# EAGLE library part MICRO-SD-SOCKET (library SteveMarple)
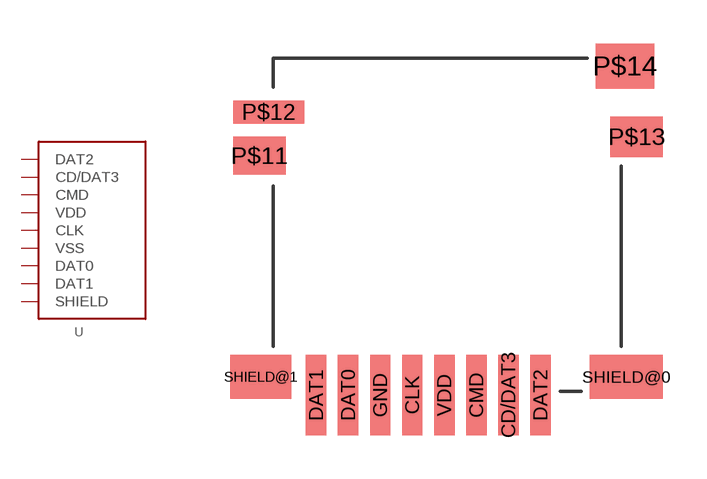
[diagram p9: symbol with the pads of MICRO-SD-SOCKET-HIROSE-DM3D; footprint MICRO-SD-SOCKET-HIROSE-DM3D]

Designator prefix -

## MICRO-SD-SOCKETHIROSE-DM3D  [MICRO-SD-SOCKET-HIROSE-DM3D]
CD/DAT3  CD/DAT3
CLK  CLK
CMD  CMD
DAT0  DAT0
DAT1  DAT1
DAT2  DAT2
GND  VSS  pwr
SHIELD@0  SHIELD
VDD  VDD  pwr

## Footprint MICRO-SD-SOCKET-HIROSE-DM3D (pad centres in mm)
smd 0.7 x 2.75: CD/DAT3 6.6,-1.375; CLK 3.3,-1.375; CMD 5.5,-1.375; DAT0 1.1,-1.375; DAT1 0,-1.375; DAT2 7.7,-1.375; GND 2.2,-1.375; VDD 4.4,-1.375
smd 1.8 x 1.3: P$11 -1.95,6.85
smd 2.45 x 0.8: P$12 -1.625,8.35
smd 1.8 x 1.4: P$13 11,7.5
smd 2 x 1.55: P$14 10.6,9.925
smd 2.5 x 1.5: SHIELD@0 10.65,-0.75
smd 2.1 x 1.5: SHIELD@1 -1.9,-0.75